# EAGLE library part ES_DAISY_SEED (library hothouse-no-branding)
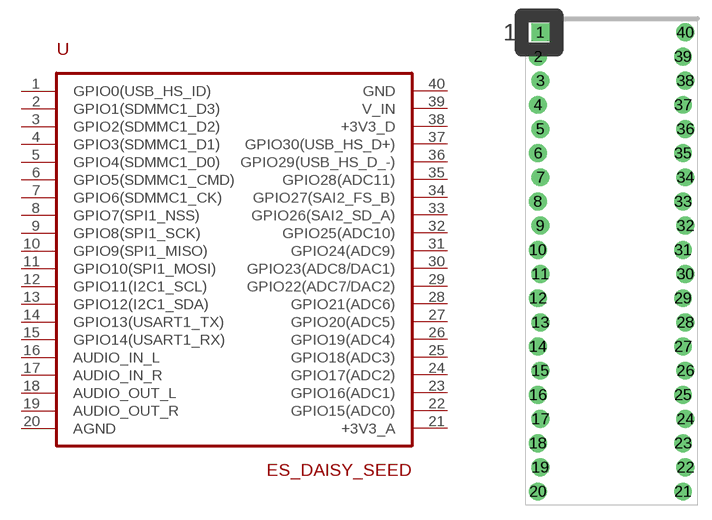
[diagram p0: symbol with the pads of ES_DAISY_SEED; footprint ES_DAISY_SEED]

Designator prefix U

## ES_DAISY_SEED (IPN: Daisy Seed)  [ES_DAISY_SEED]
1  GPIO0(USB_HS_ID)
2  GPIO1(SDMMC1_D3)
3  GPIO2(SDMMC1_D2)
4  GPIO3(SDMMC1_D1)
5  GPIO4(SDMMC1_D0)
6  GPIO5(SDMMC1_CMD)
7  GPIO6(SDMMC1_CK)
8  GPIO7(SPI1_NSS)
9  GPIO8(SPI1_SCK)
10  GPIO9(SPI1_MISO)
11  GPIO10(SPI1_MOSI)
12  GPIO11(I2C1_SCL)
13  GPIO12(I2C1_SDA)
14  GPIO13(USART1_TX)
15  GPIO14(USART1_RX)
16  AUDIO_IN_L
17  AUDIO_IN_R
18  AUDIO_OUT_L
19  AUDIO_OUT_R
20  AGND
21  +3V3_A
22  GPIO15(ADC0)
23  GPIO16(ADC1)
24  GPIO17(ADC2)
25  GPIO18(ADC3)
26  GPIO19(ADC4)
27  GPIO20(ADC5)
28  GPIO21(ADC6)
29  GPIO22(ADC7/DAC2)
30  GPIO23(ADC8/DAC1)
31  GPIO24(ADC9)
32  GPIO25(ADC10)
33  GPIO26(SAI2_SD_A)
34  GPIO27(SAI2_FS_B)
35  GPIO28(ADC11)
36  GPIO29(USB_HS_D_-)
37  GPIO30(USB_HS_D+)
38  +3V3_D
39  V_IN
40  GND

## Footprint ES_DAISY_SEED (pad centres in mm)
drill 1.016 pad 1.88 square: 1 -7.493,24.13
drill 1.016 pad 1.88: 2 -7.747,21.59; 3 -7.493,19.05; 4 -7.747,16.51; 5 -7.493,13.97; 6 -7.747,11.43; 7 -7.493,8.89; 8 -7.747,6.35; 9 -7.493,3.81; 10 -7.747,1.27; 11 -7.493,-1.27; 12 -7.747,-3.81; 13 -7.493,-6.35; 14 -7.747,-8.89; 15 -7.493,-11.43; 16 -7.747,-13.97; 17 -7.493,-16.51; 18 -7.747,-19.05; 19 -7.493,-21.59; 20 -7.747,-24.13; 21 7.493,-24.13; 22 7.747,-21.59; 23 7.493,-19.05; 24 7.747,-16.51; 25 7.493,-13.97; 26 7.747,-11.43; 27 7.493,-8.89; 28 7.747,-6.35; 29 7.493,-3.81; 30 7.747,-1.27; 31 7.493,1.27; 32 7.747,3.81; 33 7.493,6.35; 34 7.747,8.89; 35 7.493,11.43; 36 7.747,13.97; 37 7.493,16.51; 38 7.747,19.05; 39 7.493,21.59; 40 7.747,24.13